# EAGLE library part A3977 (library allegro)
MICROSTEPPING DMOS DRIVER WITH TRANSLATOR Source: 3977.pdf
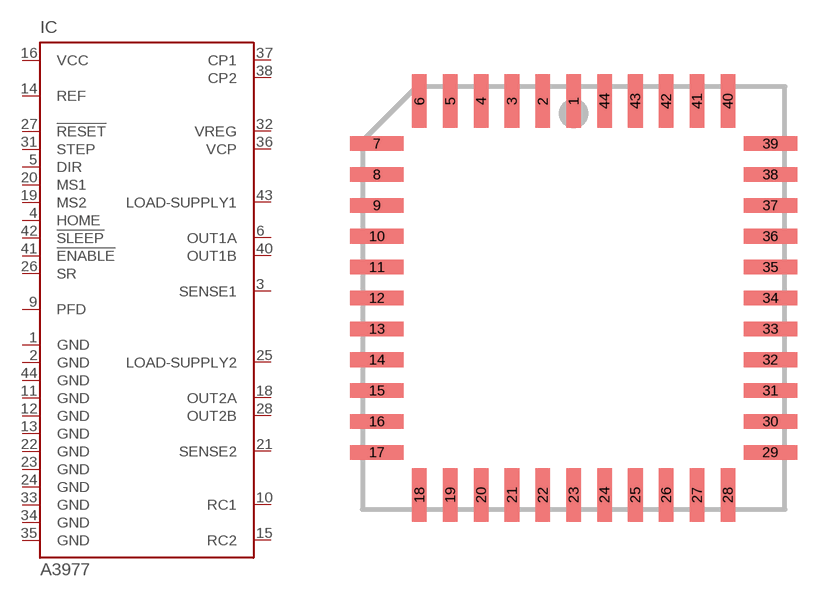
[diagram p7: symbol with the pads of PLCC44; footprint PLCC44]

Designator prefix IC

## A3977 (MF: ALLEGRO MICROSYSTEMS, INC.; MPN: A3977SED-T; OC_FARNELL: 1198089; OC_NEWARK: 31K6655)  [PLCC44]
1  GND  pwr
2  GND  pwr
3  SENSE1  in
4  HOME  in
5  DIR  in
6  OUT1A  out
9  PFD  in
10  RC1  in
11  GND  pwr
12  GND  pwr
13  GND  pwr
14  REF  in
15  RC2  in
16  VCC  pwr
18  OUT2A  out
19  MS2  in
20  MS1  in
21  SENSE2  in
22  GND  pwr
23  GND  pwr
24  GND  pwr
25  LOAD-SUPPLY2  in
26  SR  in
27  !RESET  in
28  OUT2B  out
31  STEP  in
32  VREG  in
33  GND  pwr
34  GND  pwr
35  GND  pwr
36  VCP  in
37  CP1  in
38  CP2  in
40  OUT1B  out
41  !ENABLE  in
42  !SLEEP  in
43  LOAD-SUPPLY1  in
44  GND  pwr

## Footprint PLCC44 (pad centres in mm)
PLASTIC LEADED CHIP CARRIER square
smd 0.6 x 2.2: 1 0,8.1; 2 -1.27,8.1; 3 -2.54,8.1; 4 -3.81,8.1; 5 -5.08,8.1; 6 -6.35,8.1; 18 -6.35,-8.1; 19 -5.08,-8.1; 20 -3.81,-8.1; 21 -2.54,-8.1; 22 -1.27,-8.1; 23 0,-8.1; 24 1.27,-8.1; 25 2.54,-8.1; 26 3.81,-8.1; 27 5.08,-8.1; 28 6.35,-8.1; 40 6.35,8.1; 41 5.08,8.1; 42 3.81,8.1; 43 2.54,8.1; 44 1.27,8.1
smd 2.2 x 0.6: 7 -8.1,6.35; 8 -8.1,5.08; 9 -8.1,3.81; 10 -8.1,2.54; 11 -8.1,1.27; 12 -8.1,0; 13 -8.1,-1.27; 14 -8.1,-2.54; 15 -8.1,-3.81; 16 -8.1,-5.08; 17 -8.1,-6.35; 29 8.1,-6.35; 30 8.1,-5.08; 31 8.1,-3.81; 32 8.1,-2.54; 33 8.1,-1.27; 34 8.1,0; 35 8.1,1.27; 36 8.1,2.54; 37 8.1,3.81; 38 8.1,5.08; 39 8.1,6.35